# EAGLE library part AT25DF641A-SH-B (library mbed-HDK-IC)
Serial Flash 64 Mb 100 Mhz
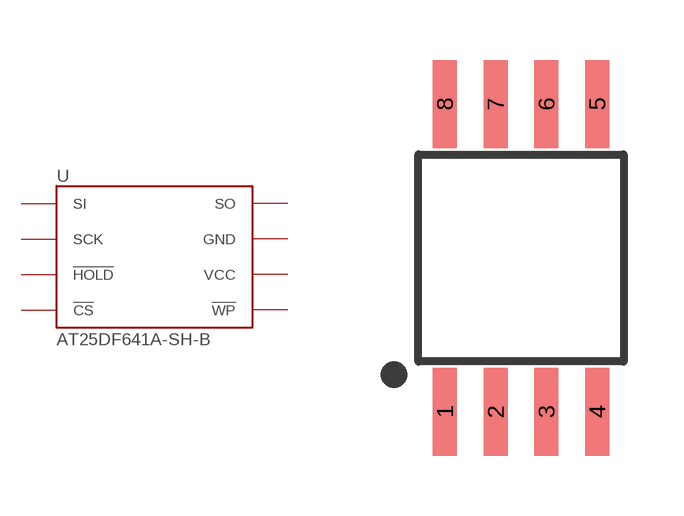
[diagram p24: symbol with the pads of SO8-WIDE; footprint SO8-WIDE]

Designator prefix U

## AT25DF641A-SH-B (MF: Adesto Technologies; MFN: AT25DF641A-SH-B; OC-DIGIKEY: 1265-1047-ND; OC-MOUSER: 988-AT25DF641A-SH-B)  [SO8-WIDE]
1  !CS
2  SO
3  !WP
4  GND
5  SI
6  SCK
7  !HOLD
8  VCC

## Footprint SO8-WIDE (pad centres in mm)
smd 0.6 x 2.2: 1 -1.905,-3.85; 2 -0.635,-3.85; 3 0.635,-3.85; 4 1.905,-3.85; 5 1.905,3.85; 6 0.635,3.85; 7 -0.635,3.85; 8 -1.905,3.85